# Altium schematic symbol library B0540WS-7.SCHLIB: 1 symbol
Pins are listed as number, name and electrical type; pins without a type are passive.

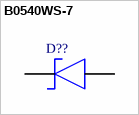
[diagram p0: symbol B0540WS-7]

## B0540WS-7
designator D??, comment Diodes Inc. B0540WS-7  (value not drawn)
DIODE SCHOTTKY 40V 500MA SOD323; Element Configuration: Single; Peak Non-Repetitive Surge Current: 3A; Forward Voltage: 550mV; Peak Reverse Current: 5uA; Polarity: Standard; Capacitance: 125pF; Supplier 1: Digi-Key; Supplier Part Number 1: B0540WSDICT-ND; Manufacturer: Diodes; Manufacturer Part Number: B0540WS-7; Stock 1: 122360; Pricing 1: 1=0.43, 10=0.317, 100=0.1796, 500=0.11896, 1000=0.09121 (USD); Mount: Surface Mount; Number of Pins: 2; Weight: 0.000173oz; Contact Plating: Matte,Tin; Min Operating Temperature: -40°C; Max Operating Temperature: 125°C; Packaging: Tape and Reel; Forward Current: 500mA; Max Repetitive Reverse Voltage (Vrrm): 40V; Package Quantity: 3000; Average Rectified Current: 500mA; Max Forward Surge Current (Ifsm): 3A; Termination: SMD/SMT; Voltage Rating (DC): 40V; Current Rating: 500mA; Output Current: 500mA; Max Reverse Voltage (DC): 40V; Length: 1.8mm; Height: 1mm; Width: 1.4mm; Radiation Hardening: No; REACH SVHC: No SVHC; Lead Free: Lead Free; Category: Productos semiconductores discretos
footprint PCB-6tqbiewd2diqb4h5r69p-1 (DIOD-1N4148WS-SOD-323-2)
pins: 1, 2